# Altium footprint library LDO.PcbLib: 5 footprints
Each footprint in its own frame and in the unit in brackets; x right, y up, seen from the top. Pads: shape width x height; smd on the part's side, far side on the other; paste and mask are expansions set on the pad; w line width, h text height; cw(c..) or ccw(c..) is an arc to the next point about the centre after c.
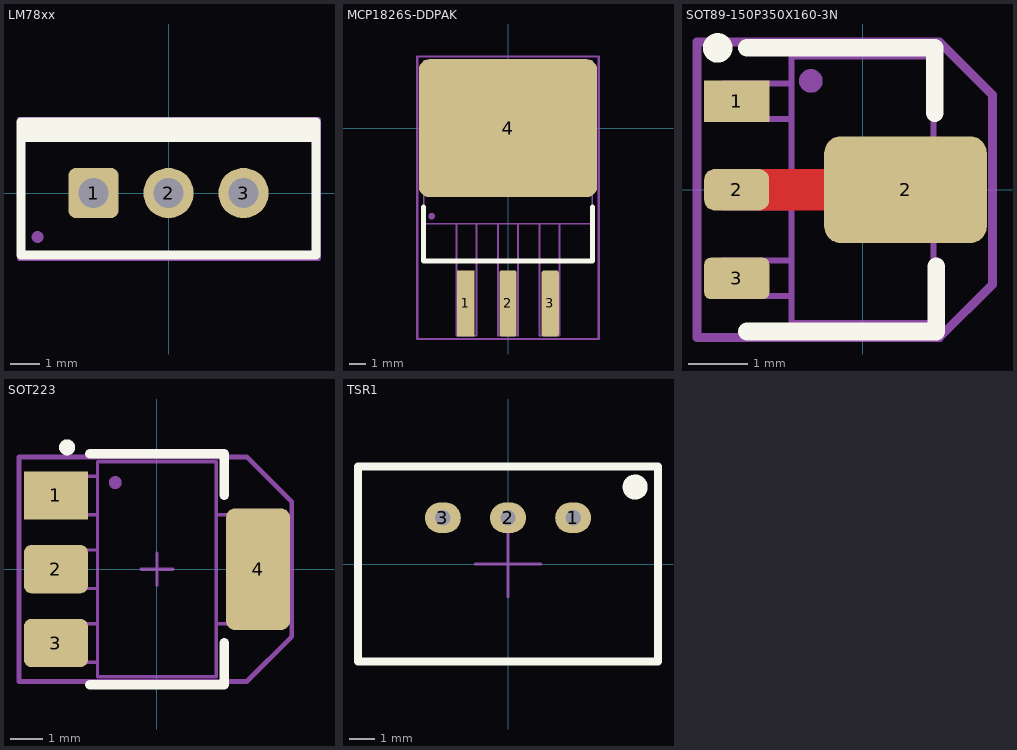
[diagram p0: the footprints below, top view; thin cyan lines are the x and y axes]

## LM78xx [mm]
pads (3):
  rrect30% 1.7x1.7 hole 1: 1(-2.54,0)
  round 1.7 hole 1: 2(0,0) 3(2.54,0)
Top Overlay:
  lines w0.3: -5,-2.1 -5,2.4 5,2.4 5,-2.1 -5,-2.1
  lines w0.6: -4.8,2.025 4.8,2.025
Mechanical 13:
  circle w0.2: c-4.433,-1.488 r0.1
  lines w0.1: -4.936,-2.101 4.97,-2.101 4.97,2.407 -4.936,2.407 -4.936,-2.101
  lines w0.5: -4.733,2.162 4.767,2.162
Mechanical 15:
  lines w0.1: -0.635,0 0.635,0 ; 0,-0.635 0,0.635
  lines w0.15: -5.063,-2.228 5.097,-2.228 5.097,2.5 -5.063,2.5 -5.063,-2.228
Mechanical 17:
  text ".Designator" at -0.4,-0.2 h1.5
3D body "User Library-TO-220-1.STEP": height 18.8, standoff -9.98, extent -4.933,-2.093 4.967,2.407

## MCP1826S-DDPAK [mil]
height 190
pads (4):
  rect 41x157 smd: 1(-100,-415.5)
  rrect30% 41x157 smd: 2(0,-415.5) 3(100,-415.5)
  rrect15% 423x327 smd: 4(0,0)
Top Overlay:
  lines w11.81: -200,-187.01 -200,-314.96 200,-314.96 200,-187.01
Mechanical 13:
  circle w7.87: c-181.1,-208.66 r3.94
  lines w3.94: -122.05,-226.38 -122.05,-492.13 -74.8,-492.13 -74.8,-226.38 ; -23.62,-226.38 -23.62,-492.13 23.62,-492.13 23.62,-226.38 ; 74.8,-226.38 74.8,-492.13 122.05,-492.13 122.05,-226.38 ; -200,-226.38 -200,160 200,160 200,-226.38 -200,-226.38
Mechanical 15:
  lines w3.94: -25,0 25,0 ; 0,-25 0,25
  lines w5.91: -215,-500 -215,170 215,170 215,-500 -215,-500
Mechanical 17:
  text ".Designator" at -13.62,-6.37 h59.06
3D body "DDPAK-TO263-3.STEP": height 175, standoff 0, extent -200,-495 200,160.51

## SOT89-150P350X160-3N [mm] "SOT89, 3-Leads, Body 4.5x4.1mm, Pitch 1.5mm, Lead Span 1.05mm, IPC Medium Density"
height 1.5
pads (4):
  rect 1.1x0.7 smd paste-0.05 mask+0.102: 1(-2.127,1.5)
  rrect50% 1.1x0.7 smd paste-0.05 mask+0.102: 2(-2.128,0)
  rrect30% 2.75x1.8 smd paste-10: 2(0.728,0)
  rrect30% 1.1x0.7 smd paste-0.05 mask+0.102: 3(-2.127,-1.5)
Top Layer:
  rectangle: -1.8,-0.351 -0.5,0.348
Top Overlay:
  circle w0.25: c-2.45,2.4 r0.125
  lines w0.3: -1.952,-2.4 1.247,-2.4 1.248,-1.3 ; -1.952,2.4 1.222,2.4 1.223,1.3
Top Paste:
  region: 0.95,0.8 0.95,-0.8 2,-0.8 2,0.8
  region: -0.425,0.6 -0.425,-0.6 0.775,-0.6 0.775,0.6
Top Solder:
  rectangle: -1.8,-0.452 -0.6,0.452
Mechanical 13:
  circle w0.2: c-0.874,1.842 r0.1
  lines w0.1: -1.2,-1.8 -2.35,-1.8 -2.35,-1.2 -1.2,-1.2 ; -1.2,-0.3 -2.35,-0.3 -2.35,0.3 -1.2,0.3 ; -1.2,1.2 -2.35,1.2 -2.35,1.8 -1.2,1.8 ; 1.2,-0.8 1.7,-0.8 1.9,-0.6 1.9,0.6 1.7,0.8 1.2,0.8 ; 1.2,-0.2 1.2,0.8 ; 1.2,0.8 1.2,0.8 ; -1.2,-2.25 1.2,-2.25 1.2,2.25 -1.2,2.25 -1.2,-2.25
Mechanical 15:
  lines w0.1: -0.5,0 0.5,0 ; 0,-0.5 0,0.5
  lines w0.15: -2.8,-2.5 1.3,-2.5 2.2,-1.6 2.2,1.6 1.3,2.5 -2.8,2.5 -2.8,-2.5
Mechanical 17:
  text ".Designator" at -1.046,-0.162 h1
3D body "SW3dPS-SOT-89-1.STEP": height 1.53, standoff 0.02, extent -2.4,-2.25 1.9,2.25

## SOT223 [mm] "SOT223, 4-Leads, Body 6,7x7,3mm (max), Pitch 2,30mm, IPC Medium Density"
height 1.8
pads (4):
  rect 2x1.5 smd: 1(-3.15,2.3)
  rrect30% 2x1.5 smd: 2(-3.15,0) 3(-3.15,-2.3)
  rrect30% 2x3.8 smd: 4(3.15,0)
Top Overlay:
  circle w0.25: c-2.8,3.8 r0.125
  lines w0.3: -2.1,-3.6 2.1,-3.6 2.1,-2.3 ; -2.1,3.6 2.1,3.6 2.1,2.3
Mechanical 13:
  circle w0.2: c-1.3,2.7 r0.1
  lines w0.1: -1.85,-2.9 -3.6,-2.9 -3.6,-1.7 -1.85,-1.7 ; -1.85,-0.6 -3.6,-0.6 -3.6,0.6 -1.85,0.6 ; -1.85,1.7 -3.6,1.7 -3.6,2.9 -1.85,2.9 ; 1.85,-1.7 3.1,-1.7 3.6,-1.2 3.6,1.3 3.2,1.7 1.85,1.7 ; -1.85,-3.35 -1.85,3.35 1.85,3.35 1.85,-3.35 -1.85,-3.35
Mechanical 15:
  lines w0.1: -0.5,0 0.5,0 ; 0,-0.5 0,0.5
  lines w0.15: -4.3,-3.5 2.8,-3.5 4.2,-2.1 4.2,2.1 2.8,3.5 -4.3,3.5 -4.3,-3.5
Mechanical 17:
  text ".Designator" at -0.5,1.25 h1.5
3D body "SOT223_230P701X180-4N.stp": height 1.82, standoff 0.02, extent -3.65,-3.35 3.65,3.35

## TSR1 [mm]
height 10.2
pads (3):
  oval 1.4x1.2 hole 0.6: 1(2.54,1.8) 2(0,1.8) 3(-2.54,1.8)
Top Overlay:
  circle w0.5: c4.96,3 r0.24
  lines w0.3: -5.85,-3.8 -5.85,3.8 5.85,3.8 5.85,-3.8 -5.85,-3.8
Mechanical 13:
  lines w0.254: -5.85,-3.8 5.85,-3.8 5.85,3.8 -5.85,3.8 -5.85,-3.8
Mechanical 15:
  lines w0.1: -1.27,0 1.27,0 ; 0,-1.27 0,1.27
  lines w0.15: -5.85,-3.8 -5.85,3.8 5.85,3.8 5.85,-3.8 -5.85,-3.8
Mechanical 17:
  text ".Designator" at -1.046,-0.162 h1.5
3D body: height 10.2, standoff 0.5, extent -5.85,-3.8 5.85,3.8
3D body: height 0.5, standoff 0, extent 5.4,-3.8 5.85,3.8
3D body: height 0.5, standoff 0, extent -5.85,-3.8 -5.4,3.8